# EAGLE library part BMP085 (library piweather)
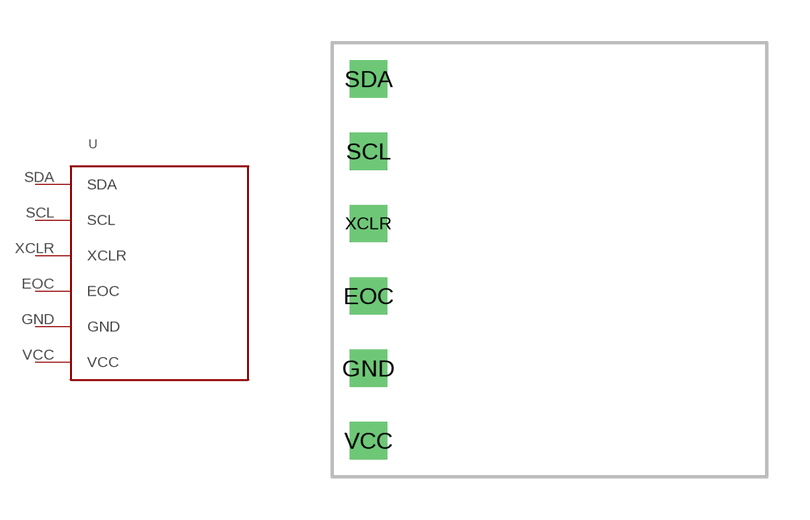
[diagram p1: symbol with the pads of BMP085; footprint BMP085]

Designator prefix -

## BMP085SPARKFUN  [BMP085]
EOC  EOC
GND  GND
SCL  SCL
SDA  SDA
VCC  VCC
XCLR  XCLR

## Footprint BMP085 (pad centres in mm)
drill 0.8 square: EOC -5.08,-1.27; GND -5.08,-3.81; SCL -5.08,3.81; SDA -5.08,6.35; VCC -5.08,-6.35; XCLR -5.08,1.27